# Altium schematic symbol library Inductor - Power.SchLib: 264 symbols (part 3 of 5)
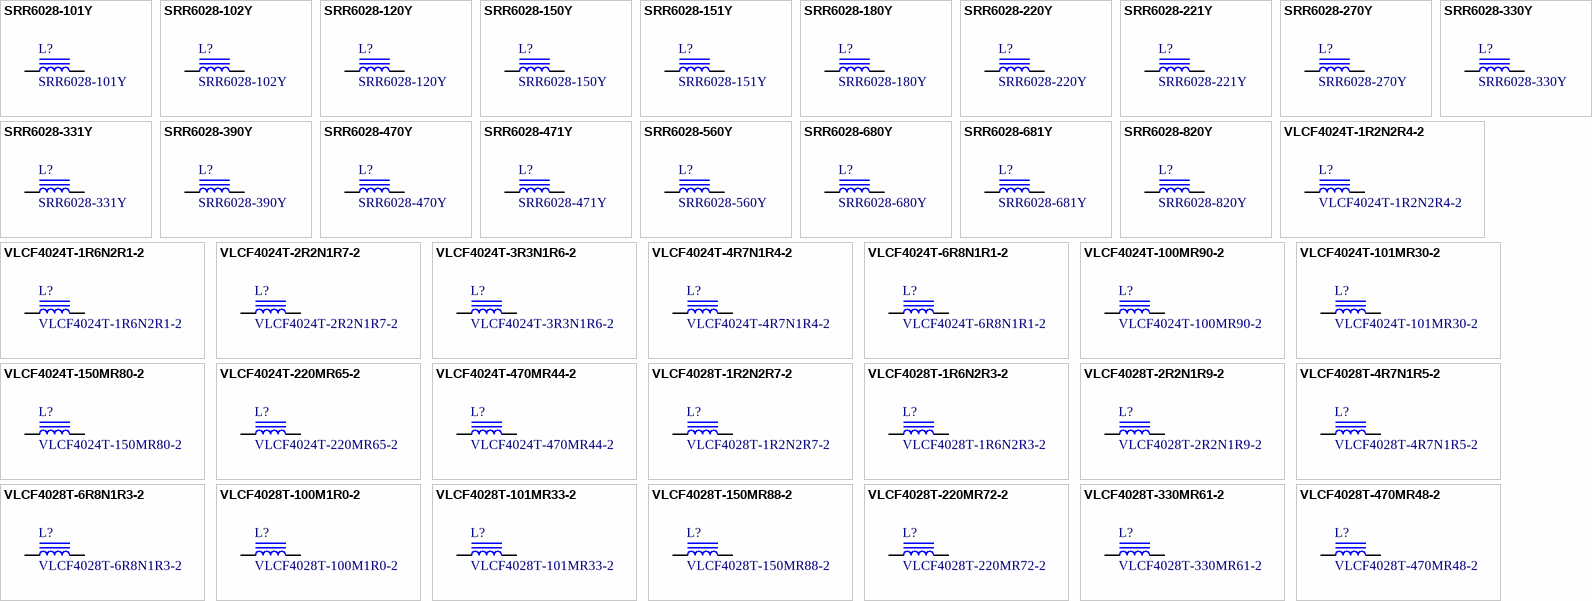
[diagram p8: symbols SRR6028-101Y to VLCF4028T-470MR48-2]

## VLCF4028T-470MR48-2
designator L?
FIXED IND 47UH 480MA 490 MOHM; Manufacturer: TDK Corporation; Type: Wirewound; Material - Core: Ferrite; Tolerance: 20%; Shielding: Shielded; DC Resistance (DCR): 490 mOhm Max; Value: 47uH; Part Number: VLCF4028T-470MR48-2; PartId: 16416; Supplier 1: Digi-Key; Supplier Part Number 1: 445-6550-2-ND; ComponentLink1Description: Datasheet; ComponentLink1URL: https://product.tdk.com/info/en/catalog/datasheets/inductor_commercial_power_vlcf4028-2_en.pdf; ComponentLink2Description: Digi-Key Listing; ComponentLink2URL: https://www.digikey.com/product-detail/en/tdk-corporation/VLCF4028T-470MR48-2/445-6550-2-ND/2465307; Price: 0.441; Device Package: Nonstandard; Series: VLCF; Inductance: 47uH; Current Rating: 480mA; Current - Saturation: 480mA; Operating Temperature: -40C ~ 105C
footprint TDK VLCF4028-2
pins: 1, 2

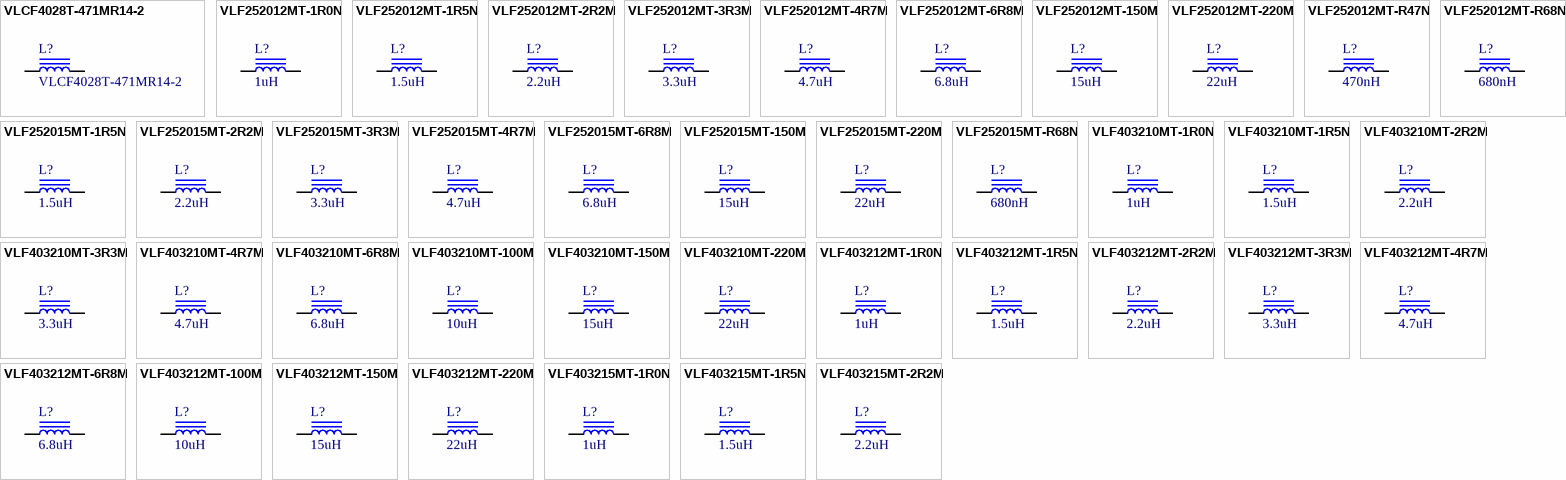
[diagram p3: symbols VLCF4028T-471MR14-2 to VLF403215MT-2R2M]

## VLCF4028T-471MR14-2
designator L?
FIXED IND 470UH 140MA 4.58 OHM; Manufacturer: TDK Corporation; Type: Wirewound; Material - Core: Ferrite; Tolerance: 20%; Shielding: Shielded; DC Resistance (DCR): 4.58 Ohm Max; Value: 470uH; Part Number: VLCF4028T-471MR14-2; PartId: 16415; Supplier 1: Digi-Key; Supplier Part Number 1: 445-6551-2-ND; ComponentLink1Description: Datasheet; ComponentLink1URL: https://product.tdk.com/info/en/catalog/datasheets/inductor_commercial_power_vlcf4028-2_en.pdf; ComponentLink2Description: Digi-Key Listing; ComponentLink2URL: https://www.digikey.com/product-detail/en/tdk-corporation/VLCF4028T-471MR14-2/445-6551-2-ND/2465308; Price: 0.441; Device Package: Nonstandard; Series: VLCF; Inductance: 470uH; Current Rating: 140mA; Current - Saturation: 140mA; Operating Temperature: -40C ~ 105C
footprint TDK VLCF4028-2
pins: 1, 2

## VLF252012MT-1R0N
designator L?, comment 1uH
FIXED IND 1UH 2.47A 52 MOHM SMD; Part Number: VLF252012MT-1R0N; Manufacturer: TDK Corporation; Type: Wirewound; Tolerance: 30%; Shielding: Shielded; DC Resistance (DCR): 52 mOhm Max; Value: 1uH; PartId: 9599; Supplier 1: Digi-Key; Supplier Part Number 1: 445-15800-2-ND; ComponentLink1Description: Datasheet; ComponentLink1URL: https://product.tdk.com/info/en/catalog/datasheets/inductor_commercial_power_vlf252012mt_en.pdf; ComponentLink2Description: Digi-Key Listing; ComponentLink2URL: https://www.digikey.com/product-detail/en/VLF252012MT-1R0N/445-15800-2-ND/4327942; Price: 0.42; Device Package: 1008 (2520 Metric); Series: VLF-M; Inductance: 1uH; Current Rating: 2.47A; Q @ Freq: -; Frequency - Self Resonant: -; Operating Temperature: -40C ~ 105C
footprint TDK VLF252012MT
pins: 1, 2

## VLF252012MT-1R5N
designator L?, comment 1.5uH
FIXED IND 1.5UH 2.17A 69 MOHM; Part Number: VLF252012MT-1R5N; Manufacturer: TDK Corporation; Type: Wirewound; Tolerance: 30%; Shielding: Shielded; DC Resistance (DCR): 69 mOhm Max; Value: 1.5uH; PartId: 9600; Supplier 1: Digi-Key; Supplier Part Number 1: 445-15801-2-ND; ComponentLink1Description: Datasheet; ComponentLink1URL: https://product.tdk.com/info/en/catalog/datasheets/inductor_commercial_power_vlf252012mt_en.pdf; ComponentLink2Description: Digi-Key Listing; ComponentLink2URL: https://www.digikey.com/product-detail/en/VLF252012MT-1R5N/445-15801-2-ND/4327943; Price: 0.42; Device Package: 1008 (2520 Metric); Series: VLF-M; Inductance: 1.5uH; Current Rating: 2.17A; Q @ Freq: -; Frequency - Self Resonant: -; Operating Temperature: -40C ~ 105C
footprint TDK VLF252012MT
pins: 1, 2

## VLF252012MT-2R2M
designator L?, comment 2.2uH
FIXED IND 2.2UH 1.67A 100 MOHM; Part Number: VLF252012MT-2R2M; Manufacturer: TDK Corporation; Type: Wirewound; Tolerance: 20%; Shielding: Shielded; DC Resistance (DCR): 100 mOhm Max; Value: 2.2uH; PartId: 9596; Supplier 1: Digi-Key; Supplier Part Number 1: 445-15803-2-ND; ComponentLink1Description: Datasheet; ComponentLink1URL: https://product.tdk.com/info/en/catalog/datasheets/inductor_commercial_power_vlf252012mt_en.pdf; ComponentLink2Description: Digi-Key Listing; ComponentLink2URL: https://www.digikey.com/product-detail/en/VLF252012MT-2R2M/445-15803-2-ND/4327945; Price: 0.42; Device Package: 1008 (2520 Metric); Series: VLF-M; Inductance: 2.2uH; Current Rating: 1.67A; Q @ Freq: -; Frequency - Self Resonant: -; Operating Temperature: -40C ~ 105C
footprint TDK VLF252012MT
pins: 1, 2

## VLF252012MT-3R3M
designator L?, comment 3.3uH
FIXED IND 3.3UH 1.39A 150 MOHM; Part Number: VLF252012MT-3R3M; Manufacturer: TDK Corporation; Type: Wirewound; Tolerance: 20%; Shielding: Shielded; DC Resistance (DCR): 150 mOhm Max; Value: 3.3uH; PartId: 9602; Supplier 1: Digi-Key; Supplier Part Number 1: 445-15804-2-ND; ComponentLink1Description: Datasheet; ComponentLink1URL: https://product.tdk.com/info/en/catalog/datasheets/inductor_commercial_power_vlf252012mt_en.pdf; ComponentLink2Description: Digi-Key Listing; ComponentLink2URL: https://www.digikey.com/product-detail/en/VLF252012MT-3R3M/445-15804-2-ND/4327946; Price: 0.42; Device Package: 1008 (2520 Metric); Series: VLF-M; Inductance: 3.3uH; Current Rating: 1.39A; Q @ Freq: -; Frequency - Self Resonant: -; Operating Temperature: -40C ~ 105C
footprint TDK VLF252012MT
pins: 1, 2

## VLF252012MT-4R7M
designator L?, comment 4.7uH
FIXED IND 4.7UH 1.09A 220 MOHM; Part Number: VLF252012MT-4R7M; Manufacturer: TDK Corporation; Type: Wirewound; Tolerance: 20%; Shielding: Shielded; DC Resistance (DCR): 220 mOhm Max; Value: 4.7uH; PartId: 9597; Supplier 1: Digi-Key; Supplier Part Number 1: 445-15805-2-ND; ComponentLink1Description: Datasheet; ComponentLink1URL: https://product.tdk.com/info/en/catalog/datasheets/inductor_commercial_power_vlf252012mt_en.pdf; ComponentLink2Description: Digi-Key Listing; ComponentLink2URL: https://www.digikey.com/product-detail/en/VLF252012MT-4R7M/445-15805-2-ND/4327947; Price: 0.42; Device Package: 1008 (2520 Metric); Series: VLF-M; Inductance: 4.7uH; Current Rating: 1.09A; Q @ Freq: -; Frequency - Self Resonant: -; Operating Temperature: -40C ~ 105C
footprint TDK VLF252012MT
pins: 1, 2

## VLF252012MT-6R8M
designator L?, comment 6.8uH
FIXED IND 6.8UH 890MA 340 MOHM; Part Number: VLF252012MT-6R8M; Manufacturer: TDK Corporation; Type: Wirewound; Tolerance: 20%; Shielding: Shielded; DC Resistance (DCR): 340 mOhm Max; Value: 6.8uH; PartId: 9603; Supplier 1: Digi-Key; Supplier Part Number 1: 445-15806-2-ND; ComponentLink1Description: Datasheet; ComponentLink1URL: https://product.tdk.com/info/en/catalog/datasheets/inductor_commercial_power_vlf252012mt_en.pdf; ComponentLink2Description: Digi-Key Listing; ComponentLink2URL: https://www.digikey.com/product-detail/en/VLF252012MT-6R8M/445-15806-2-ND/4327948; Price: 0.42; Device Package: 1008 (2520 Metric); Series: VLF-M; Inductance: 6.8uH; Current Rating: 890mA; Q @ Freq: -; Frequency - Self Resonant: -; Operating Temperature: -40C ~ 105C
footprint TDK VLF252012MT
pins: 1, 2

## VLF252012MT-150M
designator L?, comment 15uH
FIXED IND 15UH 630MA 680 MOHM; Part Number: VLF252012MT-150M; Manufacturer: TDK Corporation; Type: Wirewound; Tolerance: 20%; Shielding: Shielded; DC Resistance (DCR): 680 mOhm Max; Value: 15uH; PartId: 9595; Supplier 1: Digi-Key; Supplier Part Number 1: 445-15799-2-ND; ComponentLink1Description: Datasheet; ComponentLink1URL: https://product.tdk.com/info/en/catalog/datasheets/inductor_commercial_power_vlf252012mt_en.pdf; ComponentLink2Description: Digi-Key Listing; ComponentLink2URL: https://www.digikey.com/product-detail/en/VLF252012MT-150M/445-15799-2-ND/4327941; Price: 0.42; Device Package: 1008 (2520 Metric); Series: VLF-M; Inductance: 15uH; Current Rating: 630mA; Q @ Freq: -; Frequency - Self Resonant: -; Operating Temperature: -40C ~ 105C
footprint TDK VLF252012MT
pins: 1, 2

## VLF252012MT-220M
designator L?, comment 22uH
FIXED IND 22UH 460MA 1 OHM SMD; Part Number: VLF252012MT-220M; Manufacturer: TDK Corporation; Type: Wirewound; Tolerance: 20%; Shielding: Shielded; DC Resistance (DCR): 1 Ohm Max; Value: 22uH; PartId: 9601; Supplier 1: Digi-Key; Supplier Part Number 1: 445-15802-2-ND; ComponentLink1Description: Datasheet; ComponentLink1URL: https://product.tdk.com/info/en/catalog/datasheets/inductor_commercial_power_vlf252012mt_en.pdf; ComponentLink2Description: Digi-Key Listing; ComponentLink2URL: https://www.digikey.com/product-detail/en/VLF252012MT-220M/445-15802-2-ND/4327944; Price: 0.42; Device Package: 1008 (2520 Metric); Series: VLF-M; Inductance: 22uH; Current Rating: 460mA; Q @ Freq: -; Frequency - Self Resonant: -; Operating Temperature: -40C ~ 105C
footprint TDK VLF252012MT
pins: 1, 2

## VLF252012MT-R47N
designator L?, comment 470nH
FIXED IND 470NH 3.45A 29 MOHM; Part Number: VLF252012MT-R47N; Manufacturer: TDK Corporation; Type: Wirewound; Tolerance: 30%; Shielding: Shielded; DC Resistance (DCR): 29 mOhm Max; Value: 470nH; PartId: 9598; Supplier 1: Digi-Key; Supplier Part Number 1: 445-15807-2-ND; ComponentLink1Description: Datasheet; ComponentLink1URL: https://product.tdk.com/info/en/catalog/datasheets/inductor_commercial_power_vlf252012mt_en.pdf; ComponentLink2Description: Digi-Key Listing; ComponentLink2URL: https://www.digikey.com/product-detail/en/VLF252012MT-R47N/445-15807-2-ND/4327949; Price: 0.42; Device Package: 1008 (2520 Metric); Series: VLF-M; Inductance: 470nH; Current Rating: 3.45A; Q @ Freq: -; Frequency - Self Resonant: -; Operating Temperature: -40C ~ 105C
footprint TDK VLF252012MT
pins: 1, 2

## VLF252012MT-R68N
designator L?, comment 680nH
FIXED IND 680NH 3.04A 38 MOHM; Part Number: VLF252012MT-R68N; Manufacturer: TDK Corporation; Type: Wirewound; Tolerance: 30%; Shielding: Shielded; DC Resistance (DCR): 38 mOhm Max; Value: 680nH; PartId: 9604; Supplier 1: Digi-Key; Supplier Part Number 1: 445-15808-2-ND; ComponentLink1Description: Datasheet; ComponentLink1URL: https://product.tdk.com/info/en/catalog/datasheets/inductor_commercial_power_vlf252012mt_en.pdf; ComponentLink2Description: Digi-Key Listing; ComponentLink2URL: https://www.digikey.com/product-detail/en/VLF252012MT-R68N/445-15808-2-ND/4327950; Price: 0.42; Device Package: 1008 (2520 Metric); Series: VLF-M; Inductance: 680nH; Current Rating: 3.04A; Q @ Freq: -; Frequency - Self Resonant: -; Operating Temperature: -40C ~ 105C
footprint TDK VLF252012MT
pins: 1, 2

## VLF252015MT-1R5N
designator L?, comment 1.5uH
FIXED IND 1.5UH 2.58A 39 MOHM; Part Number: VLF252015MT-1R5N; Manufacturer: TDK Corporation; Type: Wirewound; Tolerance: 30%; Shielding: Shielded; DC Resistance (DCR): 39 mOhm Max; Value: 1.5uH; PartId: 9607; Supplier 1: Digi-Key; Supplier Part Number 1: 445-15812-2-ND; ComponentLink1Description: Datasheet; ComponentLink1URL: https://product.tdk.com/info/en/catalog/datasheets/inductor_commercial_power_vlf252015mt_en.pdf; ComponentLink2Description: Digi-Key Listing; ComponentLink2URL: https://www.digikey.com/product-detail/en/VLF252015MT-1R5N/445-15812-2-ND/4327954; Price: 0.4536; Device Package: 1008 (2520 Metric); Series: VLF-M; Inductance: 1.5uH; Current Rating: 2.58A; Q @ Freq: -; Frequency - Self Resonant: -; Operating Temperature: -40C ~ 105C
footprint TDK VLF252015MT
pins: 1, 2

## VLF252015MT-2R2M
designator L?, comment 2.2uH
FIXED IND 2.2UH 2.1A 70 MOHM SMD; Part Number: VLF252015MT-2R2M; Manufacturer: TDK Corporation; Type: Wirewound; Tolerance: 20%; Shielding: Shielded; DC Resistance (DCR): 70 mOhm Max; Value: 2.2uH; PartId: 9606; Supplier 1: Digi-Key; Supplier Part Number 1: 445-15814-2-ND; ComponentLink1Description: Datasheet; ComponentLink1URL: https://product.tdk.com/info/en/catalog/datasheets/inductor_commercial_power_vlf252015mt_en.pdf; ComponentLink2Description: Digi-Key Listing; ComponentLink2URL: https://www.digikey.com/product-detail/en/VLF252015MT-2R2M/445-15814-2-ND/4327956; Price: 0.4536; Device Package: 1008 (2520 Metric); Series: VLF-M; Inductance: 2.2uH; Current Rating: 2.1A; Q @ Freq: -; Frequency - Self Resonant: -; Operating Temperature: -40C ~ 105C
footprint TDK VLF252015MT
pins: 1, 2

## VLF252015MT-3R3M
designator L?, comment 3.3uH
FIXED IND 3.3UH 1.7A 100 MOHM; Part Number: VLF252015MT-3R3M; Manufacturer: TDK Corporation; Type: Wirewound; Tolerance: 20%; Shielding: Shielded; DC Resistance (DCR): 100 mOhm Max; Value: 3.3uH; PartId: 9609; Supplier 1: Digi-Key; Supplier Part Number 1: 445-15815-2-ND; ComponentLink1Description: Datasheet; ComponentLink1URL: https://product.tdk.com/info/en/catalog/datasheets/inductor_commercial_power_vlf252015mt_en.pdf; ComponentLink2Description: Digi-Key Listing; ComponentLink2URL: https://www.digikey.com/product-detail/en/VLF252015MT-3R3M/445-15815-2-ND/4327957; Price: 0.4536; Device Package: 1008 (2520 Metric); Series: VLF-M; Inductance: 3.3uH; Current Rating: 1.7A; Q @ Freq: -; Frequency - Self Resonant: -; Operating Temperature: -40C ~ 105C
footprint TDK VLF252015MT
pins: 1, 2

## VLF252015MT-4R7M
designator L?, comment 4.7uH
FIXED IND 4.7UH 1.45A 120 MOHM; Part Number: VLF252015MT-4R7M; Manufacturer: TDK Corporation; Type: Wirewound; Tolerance: 20%; Shielding: Shielded; DC Resistance (DCR): 120 mOhm Max; Value: 4.7uH; PartId: 9610; Supplier 1: Digi-Key; Supplier Part Number 1: 445-15816-2-ND; ComponentLink1Description: Datasheet; ComponentLink1URL: https://product.tdk.com/info/en/catalog/datasheets/inductor_commercial_power_vlf252015mt_en.pdf; ComponentLink2Description: Digi-Key Listing; ComponentLink2URL: https://www.digikey.com/product-detail/en/VLF252015MT-4R7M/445-15816-2-ND/4327958; Price: 0.4536; Device Package: 1008 (2520 Metric); Series: VLF-M; Inductance: 4.7uH; Current Rating: 1.45A; Q @ Freq: -; Frequency - Self Resonant: -; Operating Temperature: -40C ~ 105C
footprint TDK VLF252015MT
pins: 1, 2

## VLF252015MT-6R8M
designator L?, comment 6.8uH
FIXED IND 6.8UH 1.14A 190 MOHM; Part Number: VLF252015MT-6R8M; Manufacturer: TDK Corporation; Type: Wirewound; Tolerance: 20%; Shielding: Shielded; DC Resistance (DCR): 190 mOhm Max; Value: 6.8uH; PartId: 9611; Supplier 1: Digi-Key; Supplier Part Number 1: 445-15817-2-ND; ComponentLink1Description: Datasheet; ComponentLink1URL: https://product.tdk.com/info/en/catalog/datasheets/inductor_commercial_power_vlf252015mt_en.pdf; ComponentLink2Description: Digi-Key Listing; ComponentLink2URL: https://www.digikey.com/product-detail/en/VLF252015MT-6R8M/445-15817-2-ND/4327959; Price: 0.4536; Device Package: 1008 (2520 Metric); Series: VLF-M; Inductance: 6.8uH; Current Rating: 1.14A; Q @ Freq: -; Frequency - Self Resonant: -; Operating Temperature: -40C ~ 105C
footprint TDK VLF252015MT
pins: 1, 2

## VLF252015MT-150M
designator L?, comment 15uH
FIXED IND 15UH 770MA 450 MOHM; Part Number: VLF252015MT-150M; Manufacturer: TDK Corporation; Type: Wirewound; Tolerance: 20%; Shielding: Shielded; DC Resistance (DCR): 450 mOhm Max; Value: 15uH; PartId: 9605; Supplier 1: Digi-Key; Supplier Part Number 1: 445-15810-2-ND; ComponentLink1Description: Datasheet; ComponentLink1URL: https://product.tdk.com/info/en/catalog/datasheets/inductor_commercial_power_vlf252015mt_en.pdf; ComponentLink2Description: Digi-Key Listing; ComponentLink2URL: https://www.digikey.com/product-detail/en/VLF252015MT-150M/445-15810-2-ND/4327952; Price: 0.4536; Device Package: 1008 (2520 Metric); Series: VLF-M; Inductance: 15uH; Current Rating: 770mA; Q @ Freq: -; Frequency - Self Resonant: -; Operating Temperature: -40C ~ 105C
footprint TDK VLF252015MT
pins: 1, 2

## VLF252015MT-220M
designator L?, comment 22uH
FIXED IND 22UH 580MA 730 MOHM; Part Number: VLF252015MT-220M; Manufacturer: TDK Corporation; Type: Wirewound; Tolerance: 20%; Shielding: Shielded; DC Resistance (DCR): 730 mOhm Max; Value: 22uH; PartId: 9608; Supplier 1: Digi-Key; Supplier Part Number 1: 445-15813-2-ND; ComponentLink1Description: Datasheet; ComponentLink1URL: https://product.tdk.com/info/en/catalog/datasheets/inductor_commercial_power_vlf252015mt_en.pdf; ComponentLink2Description: Digi-Key Listing; ComponentLink2URL: https://www.digikey.com/product-detail/en/VLF252015MT-220M/445-15813-2-ND/4327955; Price: 0.4536; Device Package: 1008 (2520 Metric); Series: VLF-M; Inductance: 22uH; Current Rating: 580mA; Q @ Freq: -; Frequency - Self Resonant: -; Operating Temperature: -40C ~ 105C
footprint TDK VLF252015MT
pins: 1, 2

## VLF252015MT-R68N
designator L?, comment 680nH
FIXED IND 680NH 3.38A 23 MOHM; Part Number: VLF252015MT-R68N; Manufacturer: TDK Corporation; Type: Wirewound; Tolerance: 30%; Shielding: Shielded; DC Resistance (DCR): 23 mOhm Max; Value: 680nH; PartId: 9612; Supplier 1: Digi-Key; Supplier Part Number 1: 445-15819-2-ND; ComponentLink1Description: Datasheet; ComponentLink1URL: https://product.tdk.com/info/en/catalog/datasheets/inductor_commercial_power_vlf252015mt_en.pdf; ComponentLink2Description: Digi-Key Listing; ComponentLink2URL: https://www.digikey.com/product-detail/en/VLF252015MT-R68N/445-15819-2-ND/4327961; Price: 0.4536; Device Package: 1008 (2520 Metric); Series: VLF-M; Inductance: 680nH; Current Rating: 3.38A; Q @ Freq: -; Frequency - Self Resonant: -; Operating Temperature: -40C ~ 105C
footprint TDK VLF252015MT
pins: 1, 2

## VLF403210MT-1R0N
designator L?, comment 1uH
FIXED IND 1UH 3.44A 32 MOHM SMD; Part Number: VLF403210MT-1R0N; Manufacturer: TDK Corporation; Type: Wirewound; Tolerance: 30%; Shielding: Shielded; DC Resistance (DCR): 32 mOhm Max; Value: 1uH; PartId: 9618; Supplier 1: Digi-Key; Supplier Part Number 1: 445-17121-2-ND; ComponentLink1Description: Datasheet; ComponentLink1URL: https://product.tdk.com/info/en/catalog/datasheets/inductor_commercial_power_vlf403210mt_en.pdf; ComponentLink2Description: Digi-Key Listing; ComponentLink2URL: https://www.digikey.com/product-detail/en/VLF403210MT-1R0N/445-17121-2-ND/4741642; Price: 0.672; Device Package: Nonstandard; Series: VLF-M; Inductance: 1uH; Current Rating: 3.44A; Q @ Freq: -; Frequency - Self Resonant: -; Operating Temperature: -40C ~ 105C
footprint TDK VLF403210MT
pins: 1, 2

## VLF403210MT-1R5N
designator L?, comment 1.5uH
FIXED IND 1.5UH 2.96A 43 MOHM; Part Number: VLF403210MT-1R5N; Manufacturer: TDK Corporation; Type: Wirewound; Tolerance: 30%; Shielding: Shielded; DC Resistance (DCR): 43 mOhm Max; Value: 1.5uH; PartId: 9615; Supplier 1: Digi-Key; Supplier Part Number 1: 445-17123-2-ND; ComponentLink1Description: Datasheet; ComponentLink1URL: https://product.tdk.com/info/en/catalog/datasheets/inductor_commercial_power_vlf403210mt_en.pdf; ComponentLink2Description: Digi-Key Listing; ComponentLink2URL: https://www.digikey.com/product-detail/en/VLF403210MT-1R5N/445-17123-2-ND/4741643; Price: 0.672; Device Package: Nonstandard; Series: VLF-M; Inductance: 1.5uH; Current Rating: 2.96A; Q @ Freq: -; Frequency - Self Resonant: -; Operating Temperature: -40C ~ 105C
footprint TDK VLF403210MT
pins: 1, 2

## VLF403210MT-2R2M
designator L?, comment 2.2uH
FIXED IND 2.2UH 2.33A 66 MOHM; Part Number: VLF403210MT-2R2M; Manufacturer: TDK Corporation; Type: Wirewound; Tolerance: 20%; Shielding: Shielded; DC Resistance (DCR): 66 mOhm Max; Value: 2.2uH; PartId: 9613; Supplier 1: Digi-Key; Supplier Part Number 1: 445-17127-2-ND; ComponentLink1Description: Datasheet; ComponentLink1URL: https://product.tdk.com/info/en/catalog/datasheets/inductor_commercial_power_vlf403210mt_en.pdf; ComponentLink2Description: Digi-Key Listing; ComponentLink2URL: https://www.digikey.com/product-detail/en/VLF403210MT-2R2M/445-17127-2-ND/4741644; Price: 0.672; Device Package: Nonstandard; Series: VLF-M; Inductance: 2.2uH; Current Rating: 2.33A; Q @ Freq: -; Frequency - Self Resonant: -; Operating Temperature: -40C ~ 105C
footprint TDK VLF403210MT
pins: 1, 2

## VLF403210MT-3R3M
designator L?, comment 3.3uH
FIXED IND 3.3UH 1.95A 98 MOHM; Part Number: VLF403210MT-3R3M; Manufacturer: TDK Corporation; Type: Wirewound; Tolerance: 20%; Shielding: Shielded; DC Resistance (DCR): 98 mOhm Max; Value: 3.3uH; PartId: 9616; Supplier 1: Digi-Key; Supplier Part Number 1: 445-17129-2-ND; ComponentLink1Description: Datasheet; ComponentLink1URL: https://product.tdk.com/info/en/catalog/datasheets/inductor_commercial_power_vlf403210mt_en.pdf; ComponentLink2Description: Digi-Key Listing; ComponentLink2URL: https://www.digikey.com/product-detail/en/VLF403210MT-3R3M/445-17129-2-ND/4741645; Price: 0.672; Device Package: Nonstandard; Series: VLF-M; Inductance: 3.3uH; Current Rating: 1.95A; Q @ Freq: -; Frequency - Self Resonant: -; Operating Temperature: -40C ~ 105C
footprint TDK VLF403210MT
pins: 1, 2

## VLF403210MT-4R7M
designator L?, comment 4.7uH
FIXED IND 4.7UH 1.61A 140 MOHM; Part Number: VLF403210MT-4R7M; Manufacturer: TDK Corporation; Type: Wirewound; Tolerance: 20%; Shielding: Shielded; DC Resistance (DCR): 140 mOhm Max; Value: 4.7uH; PartId: 9614; Supplier 1: Digi-Key; Supplier Part Number 1: 445-17131-2-ND; ComponentLink1Description: Datasheet; ComponentLink1URL: https://product.tdk.com/info/en/catalog/datasheets/inductor_commercial_power_vlf403210mt_en.pdf; ComponentLink2Description: Digi-Key Listing; ComponentLink2URL: https://www.digikey.com/product-detail/en/VLF403210MT-4R7M/445-17131-2-ND/4741646; Price: 0.672; Device Package: Nonstandard; Series: VLF-M; Inductance: 4.7uH; Current Rating: 1.61A; Q @ Freq: -; Frequency - Self Resonant: -; Operating Temperature: -40C ~ 105C
footprint TDK VLF403210MT
pins: 1, 2

## VLF403210MT-6R8M
designator L?, comment 6.8uH
FIXED IND 6.8UH 1.24A 220 MOHM; Part Number: VLF403210MT-6R8M; Manufacturer: TDK Corporation; Type: Wirewound; Tolerance: 20%; Shielding: Shielded; DC Resistance (DCR): 220 mOhm Max; Value: 6.8uH; PartId: 9617; Supplier 1: Digi-Key; Supplier Part Number 1: 445-17133-2-ND; ComponentLink1Description: Datasheet; ComponentLink1URL: https://product.tdk.com/info/en/catalog/datasheets/inductor_commercial_power_vlf403210mt_en.pdf; ComponentLink2Description: Digi-Key Listing; ComponentLink2URL: https://www.digikey.com/product-detail/en/VLF403210MT-6R8M/445-17133-2-ND/4741647; Price: 0.672; Device Package: Nonstandard; Series: VLF-M; Inductance: 6.8uH; Current Rating: 1.24A; Q @ Freq: -; Frequency - Self Resonant: -; Operating Temperature: -40C ~ 105C
footprint TDK VLF403210MT
pins: 1, 2

## VLF403210MT-100M
designator L?, comment 10uH
FIXED IND 10UH 1.04A 310 MOHM; Part Number: VLF403210MT-100M; Manufacturer: TDK Corporation; Type: Wirewound; Tolerance: 20%; Shielding: Shielded; DC Resistance (DCR): 310 mOhm Max; Value: 10uH; PartId: 9621; Supplier 1: Digi-Key; Supplier Part Number 1: 445-17117-2-ND; ComponentLink1Description: Datasheet; ComponentLink1URL: https://product.tdk.com/info/en/catalog/datasheets/inductor_commercial_power_vlf403210mt_en.pdf; ComponentLink2Description: Digi-Key Listing; ComponentLink2URL: https://www.digikey.com/product-detail/en/VLF403210MT-100M/445-17117-2-ND/4741648; Price: 0.672; Device Package: Nonstandard; Series: VLF-M; Inductance: 10uH; Current Rating: 1.04A; Q @ Freq: -; Frequency - Self Resonant: -; Operating Temperature: -40C ~ 105C
footprint TDK VLF403210MT
pins: 1, 2

## VLF403210MT-150M
designator L?, comment 15uH
FIXED IND 15UH 830MA 490 MOHM; Part Number: VLF403210MT-150M; Manufacturer: TDK Corporation; Type: Wirewound; Tolerance: 20%; Shielding: Shielded; DC Resistance (DCR): 490 mOhm Max; Value: 15uH; PartId: 9619; Supplier 1: Digi-Key; Supplier Part Number 1: 445-17119-2-ND; ComponentLink1Description: Datasheet; ComponentLink1URL: https://product.tdk.com/info/en/catalog/datasheets/inductor_commercial_power_vlf403210mt_en.pdf; ComponentLink2Description: Digi-Key Listing; ComponentLink2URL: https://www.digikey.com/product-detail/en/VLF403210MT-150M/445-17119-2-ND/4741649; Price: 0.672; Device Package: Nonstandard; Series: VLF-M; Inductance: 15uH; Current Rating: 830mA; Q @ Freq: -; Frequency - Self Resonant: -; Operating Temperature: -40C ~ 105C
footprint TDK VLF403210MT
pins: 1, 2

## VLF403210MT-220M
designator L?, comment 22uH
FIXED IND 22UH 680MA 720 MOHM; Part Number: VLF403210MT-220M; Manufacturer: TDK Corporation; Type: Wirewound; Tolerance: 20%; Shielding: Shielded; DC Resistance (DCR): 720 mOhm Max; Value: 22uH; PartId: 9620; Supplier 1: Digi-Key; Supplier Part Number 1: 445-17125-2-ND; ComponentLink1Description: Datasheet; ComponentLink1URL: https://product.tdk.com/info/en/catalog/datasheets/inductor_commercial_power_vlf403210mt_en.pdf; ComponentLink2Description: Digi-Key Listing; ComponentLink2URL: https://www.digikey.com/product-detail/en/VLF403210MT-220M/445-17125-2-ND/4741650; Price: 0.672; Device Package: Nonstandard; Series: VLF-M; Inductance: 22uH; Current Rating: 680mA; Q @ Freq: -; Frequency - Self Resonant: -; Operating Temperature: -40C ~ 105C
footprint TDK VLF403210MT
pins: 1, 2

## VLF403212MT-1R0N
designator L?, comment 1uH
FIXED IND 1UH 3.62A 31 MOHM SMD; Part Number: VLF403212MT-1R0N; Manufacturer: TDK Corporation; Type: Wirewound; Tolerance: 30%; Shielding: Shielded; DC Resistance (DCR): 31 mOhm Max; Value: 1uH; PartId: 9629; Supplier 1: Digi-Key; Supplier Part Number 1: 445-17139-2-ND; ComponentLink1Description: Datasheet; ComponentLink1URL: https://product.tdk.com/info/en/catalog/datasheets/inductor_commercial_power_vlf403212mt_en.pdf; ComponentLink2Description: Digi-Key Listing; ComponentLink2URL: https://www.digikey.com/product-detail/en/VLF403212MT-1R0N/445-17139-2-ND/4741660; Price: 0.7008; Device Package: Nonstandard; Series: VLF-M; Inductance: 1uH; Current Rating: 3.62A; Q @ Freq: -; Frequency - Self Resonant: -; Operating Temperature: -40C ~ 105C
footprint TDK VLF403212MT
pins: 1, 2

## VLF403212MT-1R5N
designator L?, comment 1.5uH
FIXED IND 1.5UH 2.98A 50 MOHM; Part Number: VLF403212MT-1R5N; Manufacturer: TDK Corporation; Type: Wirewound; Tolerance: 30%; Shielding: Shielded; DC Resistance (DCR): 50 mOhm Max; Value: 1.5uH; PartId: 9622; Supplier 1: Digi-Key; Supplier Part Number 1: 445-17141-2-ND; ComponentLink1Description: Datasheet; ComponentLink1URL: https://product.tdk.com/info/en/catalog/datasheets/inductor_commercial_power_vlf403212mt_en.pdf; ComponentLink2Description: Digi-Key Listing; ComponentLink2URL: https://www.digikey.com/product-detail/en/VLF403212MT-1R5N/445-17141-2-ND/4741661; Price: 0.7008; Device Package: Nonstandard; Series: VLF-M; Inductance: 1.5uH; Current Rating: 2.98A; Q @ Freq: -; Frequency - Self Resonant: -; Operating Temperature: -40C ~ 105C
footprint TDK VLF403212MT
pins: 1, 2

## VLF403212MT-2R2M
designator L?, comment 2.2uH
FIXED IND 2.2UH 2.48A 65 MOHM; Part Number: VLF403212MT-2R2M; Manufacturer: TDK Corporation; Type: Wirewound; Tolerance: 20%; Shielding: Shielded; DC Resistance (DCR): 65 mOhm Max; Value: 2.2uH; PartId: 9628; Supplier 1: Digi-Key; Supplier Part Number 1: 445-17145-2-ND; ComponentLink1Description: Datasheet; ComponentLink1URL: https://product.tdk.com/info/en/catalog/datasheets/inductor_commercial_power_vlf403212mt_en.pdf; ComponentLink2Description: Digi-Key Listing; ComponentLink2URL: https://www.digikey.com/product-detail/en/VLF403212MT-2R2M/445-17145-2-ND/4741662; Price: 0.7008; Device Package: Nonstandard; Series: VLF-M; Inductance: 2.2uH; Current Rating: 2.48A; Q @ Freq: -; Frequency - Self Resonant: -; Operating Temperature: -40C ~ 105C
footprint TDK VLF403212MT
pins: 1, 2

## VLF403212MT-3R3M
designator L?, comment 3.3uH
FIXED IND 3.3UH 1.91A 91 MOHM; Part Number: VLF403212MT-3R3M; Manufacturer: TDK Corporation; Type: Wirewound; Tolerance: 20%; Shielding: Shielded; DC Resistance (DCR): 91 mOhm Max; Value: 3.3uH; PartId: 9626; Supplier 1: Digi-Key; Supplier Part Number 1: 445-17147-2-ND; ComponentLink1Description: Datasheet; ComponentLink1URL: https://product.tdk.com/info/en/catalog/datasheets/inductor_commercial_power_vlf403212mt_en.pdf; ComponentLink2Description: Digi-Key Listing; ComponentLink2URL: https://www.digikey.com/product-detail/en/VLF403212MT-3R3M/445-17147-2-ND/4741663; Price: 0.7008; Device Package: Nonstandard; Series: VLF-M; Inductance: 3.3uH; Current Rating: 1.91A; Q @ Freq: -; Frequency - Self Resonant: -; Operating Temperature: -40C ~ 105C
footprint TDK VLF403212MT
pins: 1, 2

## VLF403212MT-4R7M
designator L?, comment 4.7uH
FIXED IND 4.7UH 1.85A 120 MOHM; Part Number: VLF403212MT-4R7M; Manufacturer: TDK Corporation; Type: Wirewound; Tolerance: 20%; Shielding: Shielded; DC Resistance (DCR): 120 mOhm Max; Value: 4.7uH; PartId: 9627; Supplier 1: Digi-Key; Supplier Part Number 1: 445-17149-2-ND; ComponentLink1Description: Datasheet; ComponentLink1URL: https://product.tdk.com/info/en/catalog/datasheets/inductor_commercial_power_vlf403212mt_en.pdf; ComponentLink2Description: Digi-Key Listing; ComponentLink2URL: https://www.digikey.com/product-detail/en/VLF403212MT-4R7M/445-17149-2-ND/4741664; Price: 0.7008; Device Package: Nonstandard; Series: VLF-M; Inductance: 4.7uH; Current Rating: 1.85A; Q @ Freq: -; Frequency - Self Resonant: -; Operating Temperature: -40C ~ 105C
footprint TDK VLF403212MT
pins: 1, 2

## VLF403212MT-6R8M
designator L?, comment 6.8uH
FIXED IND 6.8UH 1.33A 180 MOHM; Part Number: VLF403212MT-6R8M; Manufacturer: TDK Corporation; Type: Wirewound; Tolerance: 20%; Shielding: Shielded; DC Resistance (DCR): 180 mOhm Max; Value: 6.8uH; PartId: 9623; Supplier 1: Digi-Key; Supplier Part Number 1: 445-17151-2-ND; ComponentLink1Description: Datasheet; ComponentLink1URL: https://product.tdk.com/info/en/catalog/datasheets/inductor_commercial_power_vlf403212mt_en.pdf; ComponentLink2Description: Digi-Key Listing; ComponentLink2URL: https://www.digikey.com/product-detail/en/VLF403212MT-6R8M/445-17151-2-ND/4741665; Price: 0.7008; Device Package: Nonstandard; Series: VLF-M; Inductance: 6.8uH; Current Rating: 1.33A; Q @ Freq: -; Frequency - Self Resonant: -; Operating Temperature: -40C ~ 105C
footprint TDK VLF403212MT
pins: 1, 2

## VLF403212MT-100M
designator L?, comment 10uH
FIXED IND 10UH 1.07A 280 MOHM; Part Number: VLF403212MT-100M; Manufacturer: TDK Corporation; Type: Wirewound; Tolerance: 20%; Shielding: Shielded; DC Resistance (DCR): 280 mOhm Max; Value: 10uH; PartId: 9630; Supplier 1: Digi-Key; Supplier Part Number 1: 445-17135-2-ND; ComponentLink1Description: Datasheet; ComponentLink1URL: https://product.tdk.com/info/en/catalog/datasheets/inductor_commercial_power_vlf403212mt_en.pdf; ComponentLink2Description: Digi-Key Listing; ComponentLink2URL: https://www.digikey.com/product-detail/en/VLF403212MT-100M/445-17135-2-ND/4741666; Price: 0.7008; Device Package: Nonstandard; Series: VLF-M; Inductance: 10uH; Current Rating: 1.07A; Q @ Freq: -; Frequency - Self Resonant: -; Operating Temperature: -40C ~ 105C
footprint TDK VLF403212MT
pins: 1, 2

## VLF403212MT-150M
designator L?, comment 15uH
FIXED IND 15UH 870MA 420 MOHM; Part Number: VLF403212MT-150M; Manufacturer: TDK Corporation; Type: Wirewound; Tolerance: 20%; Shielding: Shielded; DC Resistance (DCR): 420 mOhm Max; Value: 15uH; PartId: 9624; Supplier 1: Digi-Key; Supplier Part Number 1: 445-17137-2-ND; ComponentLink1Description: Datasheet; ComponentLink1URL: https://product.tdk.com/info/en/catalog/datasheets/inductor_commercial_power_vlf403212mt_en.pdf; ComponentLink2Description: Digi-Key Listing; ComponentLink2URL: https://www.digikey.com/product-detail/en/VLF403212MT-150M/445-17137-2-ND/4741667; Price: 0.7008; Device Package: Nonstandard; Series: VLF-M; Inductance: 15uH; Current Rating: 870mA; Q @ Freq: -; Frequency - Self Resonant: -; Operating Temperature: -40C ~ 105C
footprint TDK VLF403212MT
pins: 1, 2

## VLF403212MT-220M
designator L?, comment 22uH
FIXED IND 22UH 670MA 710 MOHM; Part Number: VLF403212MT-220M; Manufacturer: TDK Corporation; Type: Wirewound; Tolerance: 20%; Shielding: Shielded; DC Resistance (DCR): 710 mOhm Max; Value: 22uH; PartId: 9625; Supplier 1: Digi-Key; Supplier Part Number 1: 445-17143-2-ND; ComponentLink1Description: Datasheet; ComponentLink1URL: https://product.tdk.com/info/en/catalog/datasheets/inductor_commercial_power_vlf403212mt_en.pdf; ComponentLink2Description: Digi-Key Listing; ComponentLink2URL: https://www.digikey.com/product-detail/en/VLF403212MT-220M/445-17143-2-ND/4741668; Price: 0.7008; Device Package: Nonstandard; Series: VLF-M; Inductance: 22uH; Current Rating: 670mA; Q @ Freq: -; Frequency - Self Resonant: -; Operating Temperature: -40C ~ 105C
footprint TDK VLF403212MT
pins: 1, 2

## VLF403215MT-1R0N
designator L?, comment 1uH
FIXED IND 1UH 3.56A 31 MOHM SMD; Part Number: VLF403215MT-1R0N; Manufacturer: TDK Corporation; Type: Wirewound; Tolerance: 30%; Shielding: Shielded; DC Resistance (DCR): 31 mOhm Max; Value: 1uH; PartId: 9638; Supplier 1: Digi-Key; Supplier Part Number 1: 445-17156-2-ND; ComponentLink1Description: Datasheet; ComponentLink1URL: https://product.tdk.com/info/en/catalog/datasheets/inductor_commercial_power_vlf403215mt_en.pdf; ComponentLink2Description: Digi-Key Listing; ComponentLink2URL: https://www.digikey.com/product-detail/en/VLF403215MT-1R0N/445-17156-2-ND/4741678; Price: 0.7568; Device Package: Nonstandard; Series: VLF-M; Inductance: 1uH; Current Rating: 3.56A; Q @ Freq: -; Frequency - Self Resonant: -; Operating Temperature: -40C ~ 105C
footprint TDK VLF403215MT
pins: 1, 2

## VLF403215MT-1R5N
designator L?, comment 1.5uH
FIXED IND 1.5UH 3.38A 36 MOHM; Part Number: VLF403215MT-1R5N; Manufacturer: TDK Corporation; Type: Wirewound; Tolerance: 30%; Shielding: Shielded; DC Resistance (DCR): 36 mOhm Max; Value: 1.5uH; PartId: 9632; Supplier 1: Digi-Key; Supplier Part Number 1: 445-17158-2-ND; ComponentLink1Description: Datasheet; ComponentLink1URL: https://product.tdk.com/info/en/catalog/datasheets/inductor_commercial_power_vlf403215mt_en.pdf; ComponentLink2Description: Digi-Key Listing; ComponentLink2URL: https://www.digikey.com/product-detail/en/VLF403215MT-1R5N/445-17158-2-ND/4741679; Price: 0.7568; Device Package: Nonstandard; Series: VLF-M; Inductance: 1.5uH; Current Rating: 3.38A; Q @ Freq: -; Frequency - Self Resonant: -; Operating Temperature: -40C ~ 105C
footprint TDK VLF403215MT
pins: 1, 2

## VLF403215MT-2R2M
designator L?, comment 2.2uH
FIXED IND 2.2UH 3.14A 43 MOHM; Part Number: VLF403215MT-2R2M; Manufacturer: TDK Corporation; Type: Wirewound; Tolerance: 20%; Shielding: Shielded; DC Resistance (DCR): 43 mOhm Max; Value: 2.2uH; PartId: 9635; Supplier 1: Digi-Key; Supplier Part Number 1: 445-17162-2-ND; ComponentLink1Description: Datasheet; ComponentLink1URL: https://product.tdk.com/info/en/catalog/datasheets/inductor_commercial_power_vlf403215mt_en.pdf; ComponentLink2Description: Digi-Key Listing; ComponentLink2URL: https://www.digikey.com/product-detail/en/VLF403215MT-2R2M/445-17162-2-ND/4741680; Price: 0.7568; Device Package: Nonstandard; Series: VLF-M; Inductance: 2.2uH; Current Rating: 3.14A; Q @ Freq: -; Frequency - Self Resonant: -; Operating Temperature: -40C ~ 105C
footprint TDK VLF403215MT
pins: 1, 2

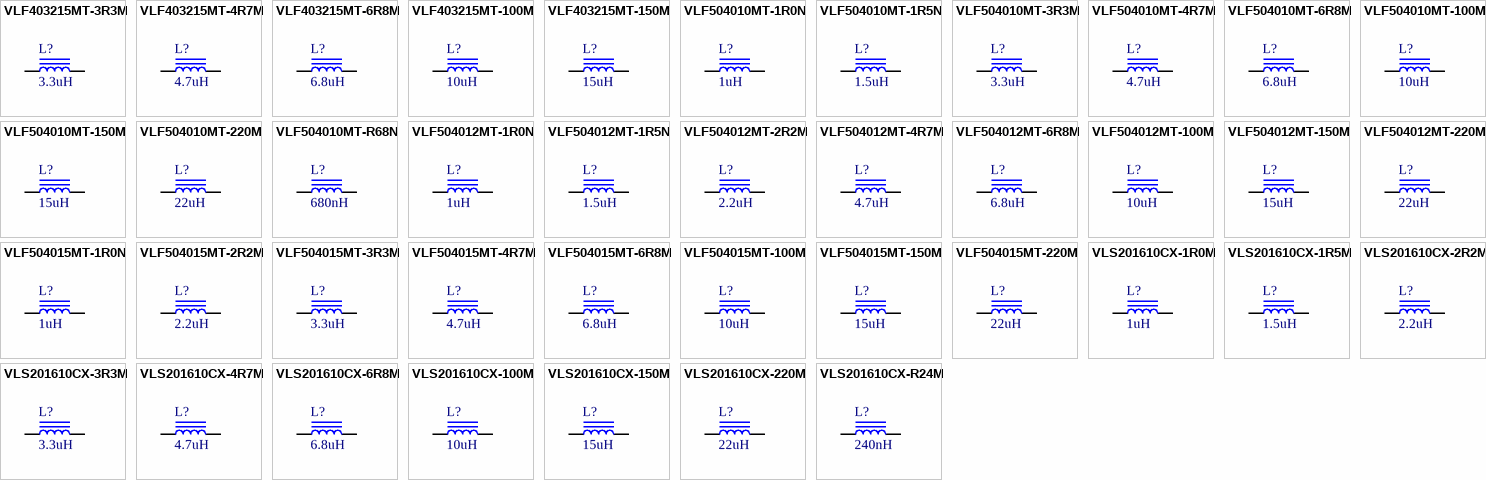
[diagram p4: symbols VLF403215MT-3R3M to VLS201610CX-R24M]

## VLF403215MT-3R3M
designator L?, comment 3.3uH
FIXED IND 3.3UH 2.65A 62 MOHM; Part Number: VLF403215MT-3R3M; Manufacturer: TDK Corporation; Type: Wirewound; Tolerance: 20%; Shielding: Shielded; DC Resistance (DCR): 62 mOhm Max; Value: 3.3uH; PartId: 9634; Supplier 1: Digi-Key; Supplier Part Number 1: 445-17164-2-ND; ComponentLink1Description: Datasheet; ComponentLink1URL: https://product.tdk.com/info/en/catalog/datasheets/inductor_commercial_power_vlf403215mt_en.pdf; ComponentLink2Description: Digi-Key Listing; ComponentLink2URL: https://www.digikey.com/product-detail/en/VLF403215MT-3R3M/445-17164-2-ND/4741681; Price: 0.7568; Device Package: Nonstandard; Series: VLF-M; Inductance: 3.3uH; Current Rating: 2.65A; Q @ Freq: -; Frequency - Self Resonant: -; Operating Temperature: -40C ~ 105C
footprint TDK VLF403215MT
pins: 1, 2

## VLF403215MT-4R7M
designator L?, comment 4.7uH
FIXED IND 4.7UH 2.13A 87 MOHM; Part Number: VLF403215MT-4R7M; Manufacturer: TDK Corporation; Type: Wirewound; Tolerance: 20%; Shielding: Shielded; DC Resistance (DCR): 87 mOhm Max; Value: 4.7uH; PartId: 9637; Supplier 1: Digi-Key; Supplier Part Number 1: 445-17166-2-ND; ComponentLink1Description: Datasheet; ComponentLink1URL: https://product.tdk.com/info/en/catalog/datasheets/inductor_commercial_power_vlf403215mt_en.pdf; ComponentLink2Description: Digi-Key Listing; ComponentLink2URL: https://www.digikey.com/product-detail/en/VLF403215MT-4R7M/445-17166-2-ND/4741682; Price: 0.7568; Device Package: Nonstandard; Series: VLF-M; Inductance: 4.7uH; Current Rating: 2.13A; Q @ Freq: -; Frequency - Self Resonant: -; Operating Temperature: -40C ~ 105C
footprint TDK VLF403215MT
pins: 1, 2

## VLF403215MT-6R8M
designator L?, comment 6.8uH
FIXED IND 6.8UH 1.68A 130 MOHM; Part Number: VLF403215MT-6R8M; Manufacturer: TDK Corporation; Type: Wirewound; Tolerance: 20%; Shielding: Shielded; DC Resistance (DCR): 130 mOhm Max; Value: 6.8uH; PartId: 9633; Supplier 1: Digi-Key; Supplier Part Number 1: 445-17168-2-ND; ComponentLink1Description: Datasheet; ComponentLink1URL: https://product.tdk.com/info/en/catalog/datasheets/inductor_commercial_power_vlf403215mt_en.pdf; ComponentLink2Description: Digi-Key Listing; ComponentLink2URL: https://www.digikey.com/product-detail/en/VLF403215MT-6R8M/445-17168-2-ND/4741683; Price: 0.7568; Device Package: Nonstandard; Series: VLF-M; Inductance: 6.8uH; Current Rating: 1.68A; Q @ Freq: -; Frequency - Self Resonant: -; Operating Temperature: -40C ~ 105C
footprint TDK VLF403215MT
pins: 1, 2

## VLF403215MT-100M
designator L?, comment 10uH
FIXED IND 10UH 1.44A 180 MOHM; Part Number: VLF403215MT-100M; Manufacturer: TDK Corporation; Type: Wirewound; Tolerance: 20%; Shielding: Shielded; DC Resistance (DCR): 180 mOhm Max; Value: 10uH; PartId: 9636; Supplier 1: Digi-Key; Supplier Part Number 1: 445-17153-2-ND; ComponentLink1Description: Datasheet; ComponentLink1URL: https://product.tdk.com/info/en/catalog/datasheets/inductor_commercial_power_vlf403215mt_en.pdf; ComponentLink2Description: Digi-Key Listing; ComponentLink2URL: https://www.digikey.com/product-detail/en/VLF403215MT-100M/445-17153-2-ND/4741684; Price: 0.7568; Device Package: Nonstandard; Series: VLF-M; Inductance: 10uH; Current Rating: 1.44A; Q @ Freq: -; Frequency - Self Resonant: -; Operating Temperature: -40C ~ 105C
footprint TDK VLF403215MT
pins: 1, 2

## VLF403215MT-150M
designator L?, comment 15uH
FIXED IND 15UH 1.19A 260 MOHM; Part Number: VLF403215MT-150M; Manufacturer: TDK Corporation; Type: Wirewound; Tolerance: 20%; Shielding: Shielded; DC Resistance (DCR): 260 mOhm Max; Value: 15uH; PartId: 9631; Supplier 1: Digi-Key; Supplier Part Number 1: 445-16168-2-ND; ComponentLink1Description: Datasheet; ComponentLink1URL: https://product.tdk.com/info/en/catalog/datasheets/inductor_commercial_power_vlf403215mt_en.pdf; ComponentLink2Description: Digi-Key Listing; ComponentLink2URL: https://www.digikey.com/product-detail/en/VLF403215MT-150M/445-16168-2-ND/4741685; Price: 0.7568; Device Package: Nonstandard; Series: VLF-M; Inductance: 15uH; Current Rating: 1.19A; Q @ Freq: -; Frequency - Self Resonant: -; Operating Temperature: -40C ~ 105C
footprint TDK VLF403215MT
pins: 1, 2

## VLF504010MT-1R0N
designator L?, comment 1uH
FIXED IND 1UH 3.08A 37 MOHM SMD; Part Number: VLF504010MT-1R0N; Manufacturer: TDK Corporation; Type: Wirewound; Tolerance: 30%; Shielding: Shielded; DC Resistance (DCR): 37 mOhm Max; Value: 1uH; PartId: 9660; Supplier 1: Digi-Key; Supplier Part Number 1: 445-17174-2-ND; ComponentLink1Description: Datasheet; ComponentLink1URL: https://product.tdk.com/info/en/catalog/datasheets/inductor_commercial_power_vlf504010mt_en.pdf; ComponentLink2Description: Digi-Key Listing; ComponentLink2URL: https://www.digikey.com/product-detail/en/VLF504010MT-1R0N/445-17174-2-ND/4741697; Price: 0.7812; Device Package: Nonstandard; Series: VLF-M; Inductance: 1uH; Current Rating: 3.08A; Q @ Freq: -; Frequency - Self Resonant: -; Operating Temperature: -40C ~ 105C
footprint TDK VLF504010MT
pins: 1, 2

## VLF504010MT-1R5N
designator L?, comment 1.5uH
FIXED IND 1.5UH 2.86A 44 MOHM; Part Number: VLF504010MT-1R5N; Manufacturer: TDK Corporation; Type: Wirewound; Tolerance: 30%; Shielding: Shielded; DC Resistance (DCR): 44 mOhm Max; Value: 1.5uH; PartId: 9656; Supplier 1: Digi-Key; Supplier Part Number 1: 445-17176-2-ND; ComponentLink1Description: Datasheet; ComponentLink1URL: https://product.tdk.com/info/en/catalog/datasheets/inductor_commercial_power_vlf504010mt_en.pdf; ComponentLink2Description: Digi-Key Listing; ComponentLink2URL: https://www.digikey.com/product-detail/en/VLF504010MT-1R5N/445-17176-2-ND/4741698; Price: 0.7812; Device Package: Nonstandard; Series: VLF-M; Inductance: 1.5uH; Current Rating: 2.86A; Q @ Freq: -; Frequency - Self Resonant: -; Operating Temperature: -40C ~ 105C
footprint TDK VLF504010MT
pins: 1, 2

## VLF504010MT-3R3M
designator L?, comment 3.3uH
FIXED IND 3.3UH 2.1A 91 MOHM SMD; Part Number: VLF504010MT-3R3M; Manufacturer: TDK Corporation; Type: Wirewound; Tolerance: 20%; Shielding: Shielded; DC Resistance (DCR): 91 mOhm Max; Value: 3.3uH; PartId: 9662; Supplier 1: Digi-Key; Supplier Part Number 1: 445-17182-2-ND; ComponentLink1Description: Datasheet; ComponentLink1URL: https://product.tdk.com/info/en/catalog/datasheets/inductor_commercial_power_vlf504010mt_en.pdf; ComponentLink2Description: Digi-Key Listing; ComponentLink2URL: https://www.digikey.com/product-detail/en/VLF504010MT-3R3M/445-17182-2-ND/4741700; Price: 0.7812; Device Package: Nonstandard; Series: VLF-M; Inductance: 3.3uH; Current Rating: 2.1A; Q @ Freq: -; Frequency - Self Resonant: -; Operating Temperature: -40C ~ 105C
footprint TDK VLF504010MT
pins: 1, 2

## VLF504010MT-4R7M
designator L?, comment 4.7uH
FIXED IND 4.7UH 1.77A 120 MOHM; Part Number: VLF504010MT-4R7M; Manufacturer: TDK Corporation; Type: Wirewound; Tolerance: 20%; Shielding: Shielded; DC Resistance (DCR): 120 mOhm Max; Value: 4.7uH; PartId: 9659; Supplier 1: Digi-Key; Supplier Part Number 1: 445-17184-2-ND; ComponentLink1Description: Datasheet; ComponentLink1URL: https://product.tdk.com/info/en/catalog/datasheets/inductor_commercial_power_vlf504010mt_en.pdf; ComponentLink2Description: Digi-Key Listing; ComponentLink2URL: https://www.digikey.com/product-detail/en/VLF504010MT-4R7M/445-17184-2-ND/4741701; Price: 0.7812; Device Package: Nonstandard; Series: VLF-M; Inductance: 4.7uH; Current Rating: 1.77A; Q @ Freq: -; Frequency - Self Resonant: -; Operating Temperature: -40C ~ 105C
footprint TDK VLF504010MT
pins: 1, 2

## VLF504010MT-6R8M
designator L?, comment 6.8uH
FIXED IND 6.8UH 1.4A 190 MOHM; Part Number: VLF504010MT-6R8M; Manufacturer: TDK Corporation; Type: Wirewound; Tolerance: 20%; Shielding: Shielded; DC Resistance (DCR): 190 mOhm Max; Value: 6.8uH; PartId: 9661; Supplier 1: Digi-Key; Supplier Part Number 1: 445-17186-2-ND; ComponentLink1Description: Datasheet; ComponentLink1URL: https://product.tdk.com/info/en/catalog/datasheets/inductor_commercial_power_vlf504010mt_en.pdf; ComponentLink2Description: Digi-Key Listing; ComponentLink2URL: https://www.digikey.com/product-detail/en/VLF504010MT-6R8M/445-17186-2-ND/4741702; Price: 0.7812; Device Package: Nonstandard; Series: VLF-M; Inductance: 6.8uH; Current Rating: 1.4A; Q @ Freq: -; Frequency - Self Resonant: -; Operating Temperature: -40C ~ 105C
footprint TDK VLF504010MT
pins: 1, 2

## VLF504010MT-100M
designator L?, comment 10uH
FIXED IND 10UH 1.21A 250 MOHM; Part Number: VLF504010MT-100M; Manufacturer: TDK Corporation; Type: Wirewound; Tolerance: 20%; Shielding: Shielded; DC Resistance (DCR): 250 mOhm Max; Value: 10uH; PartId: 9658; Supplier 1: Digi-Key; Supplier Part Number 1: 445-17170-2-ND; ComponentLink1Description: Datasheet; ComponentLink1URL: https://product.tdk.com/info/en/catalog/datasheets/inductor_commercial_power_vlf504010mt_en.pdf; ComponentLink2Description: Digi-Key Listing; ComponentLink2URL: https://www.digikey.com/product-detail/en/VLF504010MT-100M/445-17170-2-ND/4741703; Price: 0.7812; Device Package: Nonstandard; Series: VLF-M; Inductance: 10uH; Current Rating: 1.21A; Q @ Freq: -; Frequency - Self Resonant: -; Operating Temperature: -40C ~ 105C
footprint TDK VLF504010MT
pins: 1, 2

## VLF504010MT-150M
designator L?, comment 15uH
FIXED IND 15UH 980MA 400 MOHM; Part Number: VLF504010MT-150M; Manufacturer: TDK Corporation; Type: Wirewound; Tolerance: 20%; Shielding: Shielded; DC Resistance (DCR): 400 mOhm Max; Value: 15uH; PartId: 9657; Supplier 1: Digi-Key; Supplier Part Number 1: 445-17172-2-ND; ComponentLink1Description: Datasheet; ComponentLink1URL: https://product.tdk.com/info/en/catalog/datasheets/inductor_commercial_power_vlf504010mt_en.pdf; ComponentLink2Description: Digi-Key Listing; ComponentLink2URL: https://www.digikey.com/product-detail/en/VLF504010MT-150M/445-17172-2-ND/4741704; Price: 0.7812; Device Package: Nonstandard; Series: VLF-M; Inductance: 15uH; Current Rating: 980mA; Q @ Freq: -; Frequency - Self Resonant: -; Operating Temperature: -40C ~ 105C
footprint TDK VLF504010MT
pins: 1, 2

## VLF504010MT-220M
designator L?, comment 22uH
FIXED IND 22UH 780MA 600 MOHM; Part Number: VLF504010MT-220M; Manufacturer: TDK Corporation; Type: Wirewound; Tolerance: 20%; Shielding: Shielded; DC Resistance (DCR): 600 mOhm Max; Value: 22uH; PartId: 9663; Supplier 1: Digi-Key; Supplier Part Number 1: 445-17178-2-ND; ComponentLink1Description: Datasheet; ComponentLink1URL: https://product.tdk.com/info/en/catalog/datasheets/inductor_commercial_power_vlf504010mt_en.pdf; ComponentLink2Description: Digi-Key Listing; ComponentLink2URL: https://www.digikey.com/product-detail/en/VLF504010MT-220M/445-17178-2-ND/4741705; Price: 0.7812; Device Package: Nonstandard; Series: VLF-M; Inductance: 22uH; Current Rating: 780mA; Q @ Freq: -; Frequency - Self Resonant: -; Operating Temperature: -40C ~ 105C
footprint TDK VLF504010MT
pins: 1, 2

## VLF504010MT-R68N
designator L?, comment 680nH
FIXED IND 680NH 3.71A 30 MOHM; Part Number: VLF504010MT-R68N; Manufacturer: TDK Corporation; Type: Wirewound; Tolerance: 30%; Shielding: Shielded; DC Resistance (DCR): 30 mOhm Max; Value: 680nH; PartId: 9655; Supplier 1: Digi-Key; Supplier Part Number 1: 445-17188-2-ND; ComponentLink1Description: Datasheet; ComponentLink1URL: https://product.tdk.com/info/en/catalog/datasheets/inductor_commercial_power_vlf504010mt_en.pdf; ComponentLink2Description: Digi-Key Listing; ComponentLink2URL: https://www.digikey.com/product-detail/en/VLF504010MT-R68N/445-17188-2-ND/4741696; Price: 0.7812; Device Package: Nonstandard; Series: VLF-M; Inductance: 680nH; Current Rating: 3.71A; Q @ Freq: -; Frequency - Self Resonant: -; Operating Temperature: -40C ~ 105C
footprint TDK VLF504010MT
pins: 1, 2

## VLF504012MT-1R0N
designator L?, comment 1uH
FIXED IND 1UH 3.19A 38 MOHM SMD; Part Number: VLF504012MT-1R0N; Manufacturer: TDK Corporation; Type: Wirewound; Tolerance: 30%; Shielding: Shielded; DC Resistance (DCR): 38 mOhm Max; Value: 1uH; PartId: 9652; Supplier 1: Digi-Key; Supplier Part Number 1: 445-17194-2-ND; ComponentLink1Description: Datasheet; ComponentLink1URL: https://product.tdk.com/info/en/catalog/datasheets/inductor_commercial_power_vlf504012mt_en.pdf; ComponentLink2Description: Digi-Key Listing; ComponentLink2URL: https://www.digikey.com/product-detail/en/VLF504012MT-1R0N/445-17194-2-ND/4741716; Price: 0.8146; Device Package: Nonstandard; Series: VLF-M; Inductance: 1uH; Current Rating: 3.19A; Q @ Freq: -; Frequency - Self Resonant: -; Operating Temperature: -40C ~ 105C
footprint TDK VLF504012MT
pins: 1, 2

## VLF504012MT-1R5N
designator L?, comment 1.5uH
FIXED IND 1.5UH 2.91A 48 MOHM; Part Number: VLF504012MT-1R5N; Manufacturer: TDK Corporation; Type: Wirewound; Tolerance: 30%; Shielding: Shielded; DC Resistance (DCR): 48 mOhm Max; Value: 1.5uH; PartId: 9649; Supplier 1: Digi-Key; Supplier Part Number 1: 445-17196-2-ND; ComponentLink1Description: Datasheet; ComponentLink1URL: https://product.tdk.com/info/en/catalog/datasheets/inductor_commercial_power_vlf504012mt_en.pdf; ComponentLink2Description: Digi-Key Listing; ComponentLink2URL: https://www.digikey.com/product-detail/en/VLF504012MT-1R5N/445-17196-2-ND/4741717; Price: 0.8146; Device Package: Nonstandard; Series: VLF-M; Inductance: 1.5uH; Current Rating: 2.91A; Q @ Freq: -; Frequency - Self Resonant: -; Operating Temperature: -40C ~ 105C
footprint TDK VLF504012MT
pins: 1, 2

## VLF504012MT-2R2M
designator L?, comment 2.2uH
FIXED IND 2.2UH 2.71A 55 MOHM; Part Number: VLF504012MT-2R2M; Manufacturer: TDK Corporation; Type: Wirewound; Tolerance: 20%; Shielding: Shielded; DC Resistance (DCR): 55 mOhm Max; Value: 2.2uH; PartId: 9647; Supplier 1: Digi-Key; Supplier Part Number 1: 445-17200-2-ND; ComponentLink1Description: Datasheet; ComponentLink1URL: https://product.tdk.com/info/en/catalog/datasheets/inductor_commercial_power_vlf504012mt_en.pdf; ComponentLink2Description: Digi-Key Listing; ComponentLink2URL: https://www.digikey.com/product-detail/en/VLF504012MT-2R2M/445-17200-2-ND/4741718; Price: 0.8146; Device Package: Nonstandard; Series: VLF-M; Inductance: 2.2uH; Current Rating: 2.71A; Q @ Freq: -; Frequency - Self Resonant: -; Operating Temperature: -40C ~ 105C
footprint TDK VLF504012MT
pins: 1, 2

## VLF504012MT-4R7M
designator L?, comment 4.7uH
FIXED IND 4.7UH 1.83A 120 MOHM; Part Number: VLF504012MT-4R7M; Manufacturer: TDK Corporation; Type: Wirewound; Tolerance: 20%; Shielding: Shielded; DC Resistance (DCR): 120 mOhm Max; Value: 4.7uH; PartId: 9653; Supplier 1: Digi-Key; Supplier Part Number 1: 445-17204-2-ND; ComponentLink1Description: Datasheet; ComponentLink1URL: https://product.tdk.com/info/en/catalog/datasheets/inductor_commercial_power_vlf504012mt_en.pdf; ComponentLink2Description: Digi-Key Listing; ComponentLink2URL: https://www.digikey.com/product-detail/en/VLF504012MT-4R7M/445-17204-2-ND/4741720; Price: 0.8146; Device Package: Nonstandard; Series: VLF-M; Inductance: 4.7uH; Current Rating: 1.83A; Q @ Freq: -; Frequency - Self Resonant: -; Operating Temperature: -40C ~ 105C
footprint TDK VLF504012MT
pins: 1, 2